# Altium footprint library ICfootprint3.PcbLib: 77 footprints (part 5 of 5)
Each footprint in its own frame and in the unit in brackets; x right, y up, seen from the top. Pads: shape width x height; smd on the part's side, far side on the other; paste and mask are expansions set on the pad; w line width, h text height; cw(c..) or ccw(c..) is an arc to the next point about the centre after c.
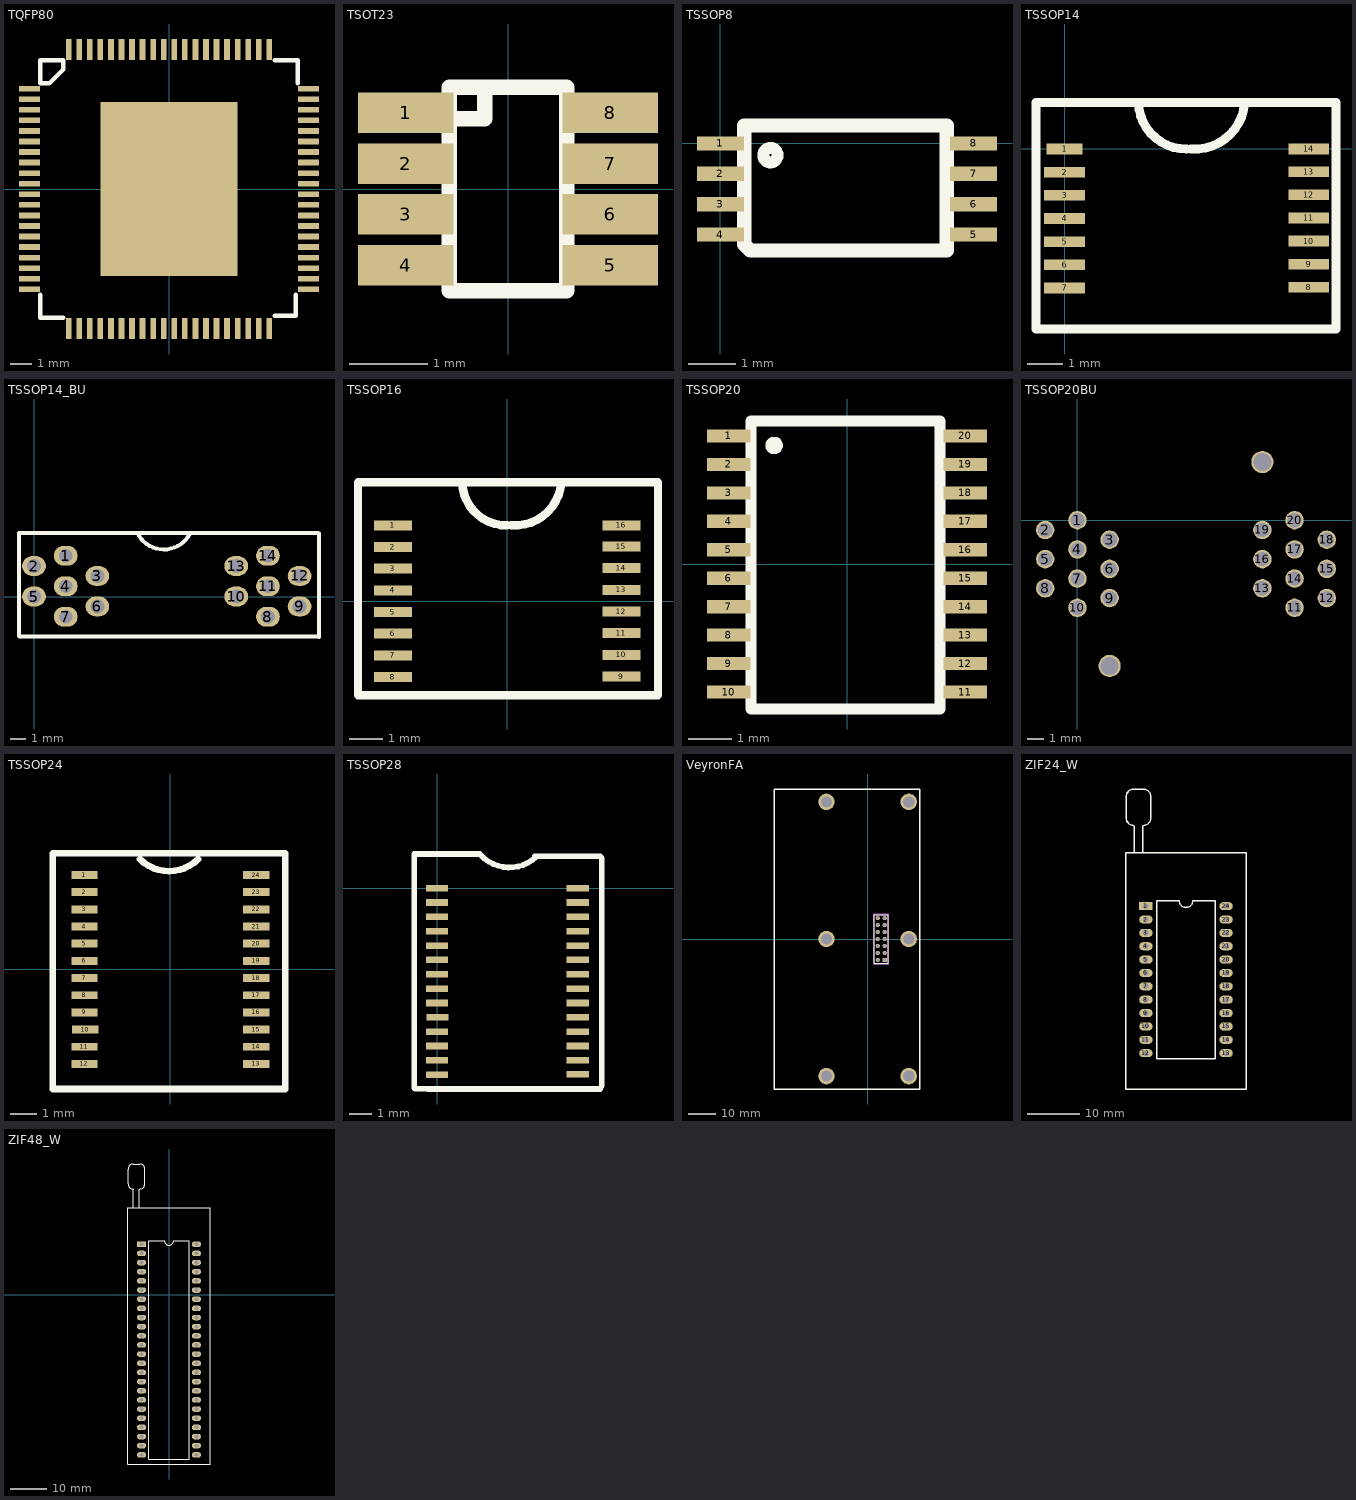
[diagram p4: the footprints below, top view; thin cyan lines are the x and y axes]

## TQFP80 [mm]
pads (81):
  rect 1x0.27 smd: 1(-6.6,4.75) 2(-6.6,4.25) 3(-6.6,3.75) 4(-6.6,3.25) 5(-6.6,2.75) 6(-6.6,2.25) 7(-6.6,1.75) 8(-6.6,1.25) 9(-6.6,0.75) 10(-6.6,0.25) 11(-6.6,-0.25) 12(-6.6,-0.75) 13(-6.6,-1.25) 14(-6.6,-1.75) 15(-6.6,-2.25) 16(-6.6,-2.75) 17(-6.6,-3.25) 18(-6.6,-3.75) 19(-6.6,-4.25) 20(-6.6,-4.75) 41(6.6,-4.75) 42(6.6,-4.25) 43(6.6,-3.75) 44(6.6,-3.25) 45(6.6,-2.75) 46(6.6,-2.25) 47(6.6,-1.75) 48(6.6,-1.25) 49(6.6,-0.75) 50(6.6,-0.25) 51(6.6,0.25) 52(6.6,0.75) 53(6.6,1.25) 54(6.6,1.75) 55(6.6,2.25) 56(6.6,2.75) 57(6.6,3.25) 58(6.6,3.75) 59(6.6,4.25) 60(6.6,4.75)
  rect 0.27x1 smd: 21(-4.75,-6.6) 22(-4.25,-6.6) 23(-3.75,-6.6) 24(-3.25,-6.6) 25(-2.75,-6.6) 26(-2.25,-6.6) 27(-1.75,-6.6) 28(-1.25,-6.6) 29(-0.75,-6.6) 30(-0.25,-6.6) 31(0.25,-6.6) 32(0.75,-6.6) 33(1.25,-6.6) 34(1.75,-6.6) 35(2.25,-6.6) 36(2.75,-6.6) 37(3.25,-6.6) 38(3.75,-6.6) 39(4.25,-6.6) 40(4.75,-6.6) 61(4.75,6.6) 62(4.25,6.6) 63(3.75,6.6) 64(3.25,6.6) 65(2.75,6.6) 66(2.25,6.6) 67(1.75,6.6) 68(1.25,6.6) 69(0.75,6.6) 70(0.25,6.6) 71(-0.25,6.6) 72(-0.75,6.6) 73(-1.25,6.6) 74(-1.75,6.6) 75(-2.25,6.6) 76(-2.75,6.6) 77(-3.25,6.6) 78(-3.75,6.6) 79(-4.25,6.6) 80(-4.75,6.6)
  rect 6.5x8.255 smd: ""(0,0)
Top Overlay:
  lines w0.203: -6.1,-5 -6.1,-6.1 -5,-6.1 ; 5,-6 6,-6 6,-5 ; 5,6.1 6.1,6.1 6.1,5 ; -6.1,5 -5.668,5 -5,5.668 -5,6.1 -6.1,6.1 -6.1,5

## TSOT23 [mm]
pads (8):
  rect 1.22x0.52 smd mask+0: 1(-1.31,0.975) 2(-1.31,0.325) 3(-1.31,-0.325) 4(-1.31,-0.975) 5(1.31,-0.975) 6(1.31,-0.325) 7(1.31,0.325) 8(1.31,0.975)
Top Overlay:
  lines w0.2: -0.75,0.9 -0.3,0.9 -0.3,1.3 ; -0.75,-1.3 -0.75,1.3 0.75,1.3 0.75,-1.3 -0.75,-1.3

## TSSOP8 [mm]
pads (8):
  rect 1x0.3 smd: 1(0,0) 2(0,-0.65) 3(0,-1.3) 4(0,-1.95) 5(5.4,-1.95) 6(5.4,-1.3) 7(5.4,-0.65) 8(5.4,0)
Top Overlay:
  circle w0.254: c1.067,-0.254 r0.155
  lines w0.305: 0.508,-2.159 0.508,0.381 4.826,0.381 4.826,-2.286 0.635,-2.286 0.508,-2.159

## TSSOP14 [mm]
pads (14):
  rect 1x0.3 smd: 1(0,0)
  rect 1.143x0.3 smd: 2(0,-0.65) 3(0,-1.3) 4(0,-1.95) 5(0,-2.6) 6(0,-3.25) 7(0,-3.9) 8(6.858,-3.885) 9(6.858,-3.235) 10(6.858,-2.585) 11(6.858,-1.935) 12(6.858,-1.285) 13(6.858,-0.635) 14(6.858,0)
Top Overlay:
  lines w0.254: 2.079,1.3 ccw(c3.404,1.325) 3.429,0 ; 3.556,0 ccw(c3.656,1.4) 5.056,1.3 ; -0.8,-5.05 7.62,-5.05 7.62,1.3 -0.8,1.3 -0.8,-5.05

## TSSOP14_BU [mil] "TSSOP14 burn-in socket"
pads (14):
  oval 60x50 hole 35: 1(80,103) 2(0,77) 3(160,52) 4(80,26) 5(0,0) 6(160,-25) 7(80,-51) 8(591,-51) 9(671,-25) 10(511,0) 11(591,26) 12(671,52) 13(511,77) 14(591,103)
Top Overlay:
  lines w10: 261,161 ccw(c328,193) 394.25,159.47 ; -38,-100 -38,160 -37,161 718,161 720,159 720,-103 718,-101 -37,-101 -38,-100

## TSSOP16 [mil]
pads (16):
  rect 45x11.81 smd: 1(-135,89.57) 2(-135,63.98) 3(-135,38.39) 4(-135,12.79) 5(-135,-12.79) 6(-135,-38.39) 7(-135,-63.98) 8(-135,-89.57) 9(135,-88.98) 10(135,-63.38) 11(135,-37.8) 12(135,-12.2) 13(135,13.39) 14(135,38.98)
  rect 45x11.81 smd mask+4: 15(135,64.57) 16(135,89.57)
Top Overlay:
  lines w10: -53.15,140.75 ccw(c-0.98,141.73) 0,89.57 ; 5,89.57 ccw(c8.94,144.68) 64.05,140.75 ; -176.18,-111.22 -176.18,140.75 178.15,140.75 178.15,-111.22 -176.18,-111.22

## TSSOP20 [mm]
pads (20):
  rect 1x0.3 smd: 1(-2.7,2.925) 2(-2.7,2.275) 3(-2.7,1.625) 4(-2.7,0.975) 5(-2.7,0.325) 6(-2.7,-0.325) 7(-2.7,-0.975) 8(-2.7,-1.625) 9(-2.7,-2.275) 10(-2.7,-2.925) 11(2.7,-2.925) 12(2.7,-2.275) 13(2.7,-1.625) 14(2.7,-0.975) 15(2.7,-0.325) 16(2.7,0.325) 17(2.7,0.975) 18(2.7,1.625) 19(2.7,2.275) 20(2.7,2.925)
Top Overlay:
  circle w0.254: c-1.663,2.706 r0.072
  lines w0.254: -2.192,-3.312 -2.192,3.269 2.126,3.269 2.126,-3.312 -2.192,-3.312

## TSSOP20BU [mil]
pads (22):
  round 44 hole 34: 1(0,0) 2(-77,-23.25) 3(77,-46.5) 4(0,-69.75) 5(-77,-93) 6(77,-116.25) 7(0,-139.5) 8(-77,-162.75) 9(77,-186) 10(0,-209.25) 11(519,-209.25) 12(596,-186) 13(442,-162.75) 14(519,-139.5) 15(596,-116.25) 16(442,-93) 17(519,-69.75) 18(596,-46.5) 19(442,-23.25) 20(519,0)
  round 53 hole 43: ""(77,-348.25) ""(442,139)

## TSSOP24 [mm]
pads (24):
  rect 1x0.3 smd: 1(-3.25,3.575) 2(-3.25,2.925) 3(-3.25,2.275) 4(-3.25,1.625) 5(-3.25,0.975) 6(-3.25,0.325) 7(-3.25,-0.325) 8(-3.25,-0.975) 9(-3.25,-1.625) 10(-3.227,-2.275) 11(-3.25,-2.925) 12(-3.25,-3.575) 13(3.25,-3.575) 14(3.25,-2.925) 15(3.25,-2.275) 16(3.25,-1.625) 17(3.25,-0.975) 18(3.25,-0.325) 19(3.25,0.325) 20(3.25,0.975) 21(3.25,1.625) 22(3.25,2.275) 23(3.25,2.925) 24(3.25,3.575)
Top Overlay:
  lines w0.254: -1.15,4.175 ccw(c-0.05,5.275) 1.05,4.175 ; -4.45,-4.525 4.35,-4.525 4.35,4.4 -4.45,4.4 -4.45,-4.525

## TSSOP28 [mm]
pads (29):
  rect 1x0.3 smd: 1(0,0) 1(0,0) 2(0,-0.65) 3(0,-1.3) 4(0,-1.95) 5(0,-2.6) 6(0,-3.25) 7(0,-3.9) 8(0,-4.55) 9(0,-5.2) 10(0.023,-5.85) 11(0,-6.5) 12(0,-7.15) 13(0,-7.8) 14(0,-8.45) 15(6.375,-8.433) 16(6.375,-7.798) 17(6.375,-7.15) 18(6.375,-6.5) 19(6.375,-5.85) 20(6.375,-5.2) 21(6.375,-4.55) 22(6.375,-3.9) 23(6.375,-3.25) 24(6.375,-2.6) 25(6.375,-1.95) 26(6.375,-1.3) 27(6.375,-0.65) 28(6.375,0)
Top Overlay:
  lines w0.254: -1.041,1 -1.041,1.549 1.93,1.549 ; -1.027,-9.057 -1.027,0.5 -1.027,1.3 ; -0.991,-9.093 -0.5,-9.093 ; -0.4,-9.1 7.4,-9.1 ; 1.981,1.499 ccw(c3.277,2.718) 4.496,1.422 ; 4.42,1.448 7.391,1.448 7.468,1.372 7.468,0.914 ; 7.468,-8.966 7.468,0.965

## VeyronFA [mm]
pads (20):
  rect 1.52x1.52 hole 1.02: 1(6.27,-7.62)
  round 1.52 hole 1.02: 2(3.73,-7.62) 3(6.27,-5.08) 4(3.73,-5.08) 5(6.27,-2.54) 6(3.73,-2.54) 7(6.27,0) 8(3.73,0) 9(6.27,2.54) 10(3.73,2.54) 11(6.27,5.08) 12(3.73,5.08) 13(6.27,7.62) 14(3.73,7.62)
  round 6 hole 4.1: MH_FA(-15,-50) MH_FA(-15,0) MH_FA(-15,50) MH_FA(15,-50) MH_FA(15,0) MH_FA(15,50)
Top Overlay:
  lines w0.2: 2.46,-8.89 2.46,8.89 7.54,8.89 7.54,-8.89 2.46,-8.89
  lines w0.508: -34.05,-54.7 -34.05,54.7 19.05,54.7 19.05,-54.7 -34.05,-54.7
Mechanical 13:
  lines w0.1: 2.46,-8.89 2.46,8.89 7.54,8.89 7.54,-8.89 2.46,-8.89
Mechanical 15:
  lines w0.05: 2.27,-9.12 2.27,9.13 7.77,9.13 7.77,-9.12 2.27,-9.12
3D body: height 8.39, standoff -2.71, extent 2.46,-8.89 7.54,8.89

## ZIF24_W [mil]
pads (24):
  rect 100x60 hole 40: 1(-4792,23522)
  oval 100x60 hole 40: 2(-4792,23422) 3(-4792,23322) 4(-4792,23222) 5(-4792,23122) 6(-4792,23022) 7(-4792,22922) 8(-4792,22822) 9(-4792,22722) 10(-4792,22622) 11(-4792,22522) 12(-4792,22422) 13(-4192,22422) 14(-4192,22522) 15(-4192,22622) 16(-4192,22722) 17(-4192,22822) 18(-4192,22922) 19(-4192,23022) 20(-4192,23122) 21(-4192,23222) 22(-4192,23322) 23(-4192,23422) 24(-4192,23522)
Top Overlay:
  lines w10: -4882,24125.43 cw(c-4882,24182) -4938.57,24182 -4938.57,24342 cw(c-4882,24342) -4882,24398.57 -4812,24398.57 cw(c-4812,24342) -4755.43,24342 -4755.43,24182 cw(c-4812,24182) -4812,24125.43 ; -4880,23922 -4880,24022 -4880,24122 ; -4816,23926 -4816,24022 -4816,24122 ; -4942,22154 -4942,23922 -4042,23922 -4042,22154 -4942,22154 ; -4712,22382 -4712,23562 -4542,23562 ccw(c-4492,23562) -4442,23562 -4272,23562 -4272,22382 -4712,22382

## ZIF48_W [mil]
pads (48):
  rect 100x60 hole 40: 1(-300,550)
  oval 100x60 hole 40: 2(-300,450) 3(-300,350) 4(-300,250) 5(-300,150) 6(-300,50) 7(-300,-50) 8(-300,-150) 9(-300,-250) 10(-300,-350) 11(-300,-450) 12(-300,-550) 13(-300,-650) 14(-300,-750) 15(-300,-850) 16(-300,-950) 17(-300,-1050) 18(-300,-1150) 19(-300,-1250) 20(-300,-1350) 21(-300,-1450) 22(-300,-1550) 23(-300,-1650) 24(-300,-1750) 25(300,-1750) 26(300,-1650) 27(300,-1550) 28(300,-1450) 29(300,-1350) 30(300,-1250) 31(300,-1150) 32(300,-1050) 33(300,-950) 34(300,-850) 35(300,-750) 36(300,-650) 37(300,-550) 38(300,-450) 39(300,-350) 40(300,-250) 41(300,-150) 42(300,-50) 43(300,50) 44(300,150) 45(300,250) 46(300,350) 47(300,450) 48(300,550)
Top Overlay:
  lines w10: -390,1153.43 cw(c-390,1210) -446.57,1210 -446.57,1370 cw(c-390,1370) -390,1426.57 -320,1426.57 cw(c-320,1370) -263.43,1370 -263.43,1210 cw(c-320,1210) -320,1153.43 ; -388,950 -388,1050 -388,1150 ; -324,954 -324,1050 -324,1150 ; -450,-1850 450,-1850 450,950 -450,950 -450,-1850 ; -220,-1800 220,-1800 220,590 50,590 cw(c0,590) -50,590 -220,590 -220,-1800